# Altium footprint library CD74HC4067_DB_24.PcbLib: 3 footprints
Each footprint in its own frame and in the unit in brackets; x right, y up, seen from the top. Pads: shape width x height; smd on the part's side, far side on the other; paste and mask are expansions set on the pad; w line width, h text height; cw(c..) or ccw(c..) is an arc to the next point about the centre after c.
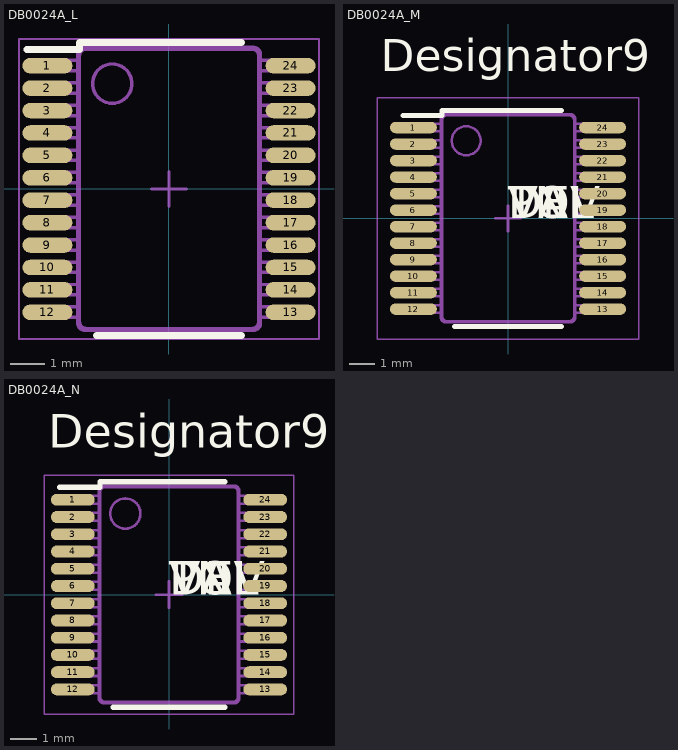
[diagram p0: the footprints below, top view; thin cyan lines are the x and y axes]

## DB0024A_L [mm]
pads (24):
  oval 1.45x0.45 smd paste+0 mask+0.051: 1(-3.525,3.575) 2(-3.525,2.925) 3(-3.525,2.275) 4(-3.525,1.625) 5(-3.525,0.975) 6(-3.525,0.325) 7(-3.525,-0.325) 8(-3.525,-0.975) 9(-3.525,-1.625) 10(-3.525,-2.275) 11(-3.525,-2.925) 12(-3.525,-3.575) 13(3.525,-3.575) 14(3.525,-2.925) 15(3.525,-2.275) 16(3.525,-1.625) 17(3.525,-0.975) 18(3.525,-0.325) 19(3.525,0.325) 20(3.525,0.975) 21(3.525,1.625) 22(3.525,2.275) 23(3.525,2.925) 24(3.525,3.575)
Top Overlay:
  lines w0.2: -4.125,4.05 -2.6,4.05 -2.6,4.25 -2.1,4.25 2.1,4.25 ; -2.1,-4.25 2.1,-4.25
Mechanical 13:
  drawing of 310 lines, arcs and shapes, not listed
Mechanical 15:
  lines w0.05: -4.35,-4.35 4.35,-4.35 4.35,4.35 -4.35,4.35 -4.35,-4.35
  lines w0.1: -0.5,0 0.5,0 ; 0,-0.5 0,0.5
3D body: height 0.25, standoff 0, extent 0,0 0.254,0.254

## DB0024A_M [mm]
pads (24):
  oval 1.85x0.45 smd paste+0 mask+0.051: 1(-3.725,3.575) 2(-3.725,2.925) 3(-3.725,2.275) 4(-3.725,1.625) 5(-3.725,0.975) 6(-3.725,0.325) 7(-3.725,-0.325) 8(-3.725,-0.975) 9(-3.725,-1.625) 10(-3.725,-2.275) 11(-3.725,-2.925) 12(-3.725,-3.575) 13(3.725,-3.575) 14(3.725,-2.925) 15(3.725,-2.275) 16(3.725,-1.625) 17(3.725,-0.975) 18(3.725,-0.325) 19(3.725,0.325) 20(3.725,0.975) 21(3.725,1.625) 22(3.725,2.275) 23(3.725,2.925) 24(3.725,3.575)
Top Overlay:
  lines w0.2: -4.125,4.05 -2.6,4.05 -2.6,4.25 -2.1,4.25 2.1,4.25 ; -2.1,-4.25 2.1,-4.25
  text "Designator9" at -5.004,5.791 h1.27
  text "TOL" at 0,0 h1.27
  text "VAL" at 0,0 h1.27
  text "PN" at 0,0 h1.27
  text "DEV" at 0,0 h1.27
Mechanical 13:
  drawing of 310 lines, arcs and shapes, not listed
  text ".Designator" at -0.53,1.9 h1.27
Mechanical 15:
  lines w0.05: -5.15,-4.75 -5.15,4.75 5.15,4.75 5.15,-4.75 -5.15,-4.75
  lines w0.1: -0.5,0 0.5,0 ; 0,-0.5 0,0.5
3D body: height 0.25, standoff 0, extent 0,0 0.254,0.254

## DB0024A_N [mm]
pads (24):
  oval 1.65x0.45 smd paste+0 mask+0.051: 1(-3.625,3.575) 2(-3.625,2.925) 3(-3.625,2.275) 4(-3.625,1.625) 5(-3.625,0.975) 6(-3.625,0.325) 7(-3.625,-0.325) 8(-3.625,-0.975) 9(-3.625,-1.625) 10(-3.625,-2.275) 11(-3.625,-2.925) 12(-3.625,-3.575) 13(3.625,-3.575) 14(3.625,-2.925) 15(3.625,-2.275) 16(3.625,-1.625) 17(3.625,-0.975) 18(3.625,-0.325) 19(3.625,0.325) 20(3.625,0.975) 21(3.625,1.625) 22(3.625,2.275) 23(3.625,2.925) 24(3.625,3.575)
Top Overlay:
  lines w0.2: -4.125,4.05 -2.6,4.05 -2.6,4.25 -2.1,4.25 2.1,4.25 ; -2.1,-4.25 2.1,-4.25
  text "Designator9" at -4.547,5.537 h1.27
  text "TOL" at 0,0 h1.27
  text "VAL" at 0,0 h1.27
  text "PN" at 0,0 h1.27
  text "DEV" at 0,0 h1.27
Mechanical 13:
  drawing of 310 lines, arcs and shapes, not listed
  text ".Designator" at -0.53,1.9 h1.27
Mechanical 15:
  lines w0.05: -4.7,-4.5 -4.7,4.5 4.7,4.5 4.7,-4.5 -4.7,-4.5
  lines w0.1: -0.5,0 0.5,0 ; 0,-0.5 0,0.5
3D body: height 0.25, standoff 0, extent 0,0 0.254,0.254